# Altium schematic symbol library Capacitors-0603.SchLib: 32 symbols
Pins are listed as number, name and electrical type; pins without a type are passive.

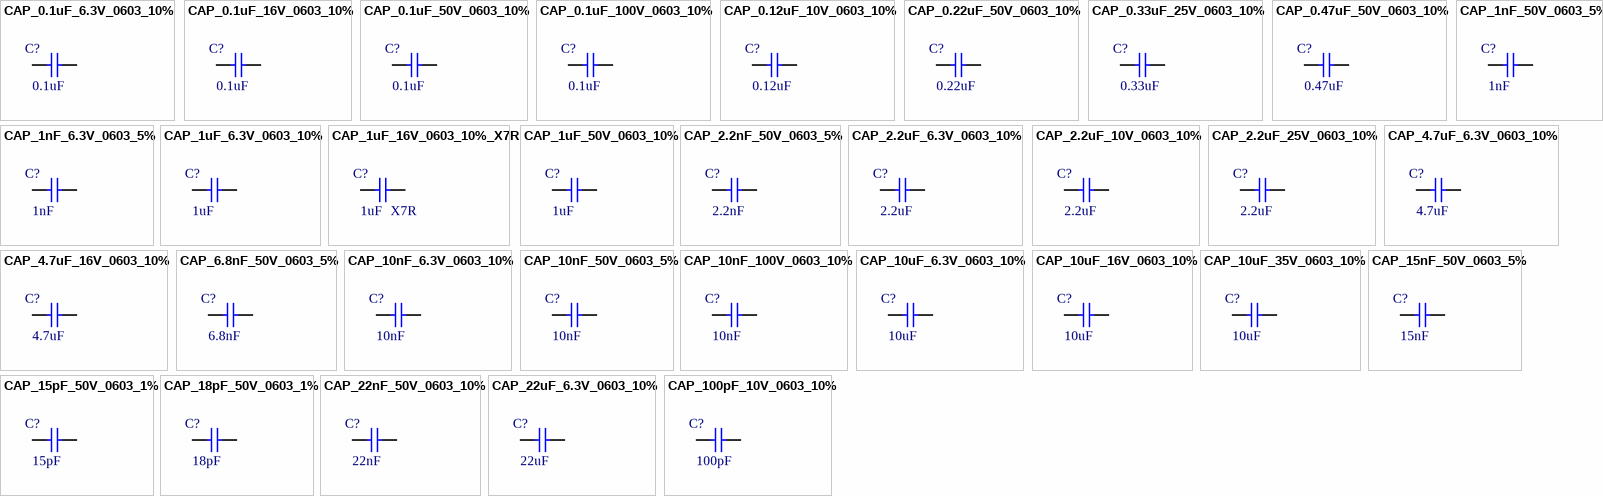
[diagram p0: symbols CAP_0.1uF_6.3V_0603_10% to CAP_100pF_10V_0603_10%]

## CAP_0.1uF_6.3V_0603_10%
designator C?, comment value 0.1uF  (hidden comment: 0.1uF 6.3V 0603)
0.1uF 6.3V 10% 0603 (1608 Metric); PartNumber: GRM188R70J104KA01D; Manufacturer: Murata; Mounting Technology: Surface Mount; PackageReference: 0603; PackageDescription: 0603 (1608 Metric); Voltage: 6.3V; Tolerance: 10%
footprint C0603[1608X92] (Chip Capacitor, Body 1.6x0.8mm)
pins: 1, 2

## CAP_0.1uF_16V_0603_10%
designator C?, comment value 0.1uF  (hidden comment: 0.1uF 16V 0603)
0.1uF 16V 10% 0603 (1608 Metric); PartNumber: GCM188R71C104KA37D; Manufacturer: Murata; TemperatureCoefficient: X7R; Mounting Technology: Surface Mount; PackageReference: 0603; PackageDescription: 0603 (1608 Metric); Voltage: 16V; Tolerance: 10%
footprint C0603[1608X92] (Chip Capacitor, Body 1.6x0.8mm)
pins: 1, 2

## CAP_0.1uF_50V_0603_10%
designator C?, comment value 0.1uF  (hidden comment: 0.1uF 50V 0603)
0.1uF 50V 10% 0603 (1608 Metric); PartNumber: GCM188R71H104KA57D; Manufacturer: Murata; TemperatureCoefficient: X7R; Mounting Technology: Surface Mount; PackageReference: 0603; PackageDescription: 0603 (1608 Metric); Voltage: 50V; Tolerance: 10%
footprint C0603[1608X92] (Chip Capacitor, Body 1.6x0.8mm)
pins: 1, 2

## CAP_0.1uF_100V_0603_10%
designator C?, comment value 0.1uF  (hidden comment: 0.1uF 100V 0603)
0.1uF 100V 10% 0603 (1608 Metric); PartNumber: GRM188R72A104KA35D; Manufacturer: Murata; TemperatureCoefficient: X7R; Mounting Technology: Surface Mount; PackageReference: 0603; PackageDescription: 0603 (1608 Metric); Voltage: 100V; Tolerance: 10%
footprint C0603[1608X92] (Chip Capacitor, Body 1.6x0.8mm)
pins: 1, 2

## CAP_0.12uF_10V_0603_10%
designator C?, comment value 0.12uF  (hidden comment: 0.12uF 10V 0603)
0.12uF 10V 10% 0603 (1608 Metric); PartNumber: GRM188R71A124KA01D; Manufacturer: Murata; TemperatureCoefficient: X7R; Mounting Technology: Surface Mount; PackageReference: 0603; PackageDescription: 0603 (1608 Metric); Voltage: 10V; Tolerance: 10%
footprint C0603[1608X92] (Chip Capacitor, Body 1.6x0.8mm)
pins: 1, 2

## CAP_0.22uF_50V_0603_10%
designator C?, comment value 0.22uF  (hidden comment: 0.22uF 50V 0603)
0.22uF 50V 10% 0603 (1608 Metric); PartNumber: GRM188R61H224KAC4D; Manufacturer: Murata; TemperatureCoefficient: X7R; Mounting Technology: Surface Mount; PackageReference: 0603; PackageDescription: 0603 (1608 Metric); Voltage: 50V; Tolerance: 10%
footprint C0603[1608X92] (Chip Capacitor, Body 1.6x0.8mm)
pins: 1, 2

## CAP_0.33uF_25V_0603_10%
designator C?, comment value 0.33uF  (hidden comment: 0.33uF 25V 0603)
0.33uF 25V 10% 0603 (1608 Metric); PartNumber: GCJ188R91E334KA01D; Manufacturer: Murata; TemperatureCoefficient: X8R; Mounting Technology: Surface Mount; PackageReference: 0603; PackageDescription: 0603 (1608 Metric); Voltage: 25V; Tolerance: 10%
footprint C0603[1608X92] (Chip Capacitor, Body 1.6x0.8mm)
pins: 1, 2

## CAP_0.47uF_50V_0603_10%
designator C?, comment value 0.47uF  (hidden comment: 0.47uF 50V 0603)
0.47uF 50V 10% 0603 (1608 Metric); PartNumber: GRM188R61H474KA12D; Manufacturer: Murata; TemperatureCoefficient: X5R; Mounting Technology: Surface Mount; PackageReference: 0603; PackageDescription: 0603 (1608 Metric); Voltage: 50V; Tolerance: 10%
footprint C0603[1608X92] (Chip Capacitor, Body 1.6x0.8mm)
pins: 1, 2

## CAP_1nF_6.3V_0603_5%
designator C?, comment value 1nF  (hidden comment: 1nF 6.3V 0603)
1nF 6.3V 5% 0603 (1608 Metric); PartNumber: 06036C102KAT4A; Manufacturer: AVX Corporation; Tolerance: 10%; TemperatureCoefficient: X7R; Mounting Technology: Surface Mount; PackageReference: 0603; PackageDescription: 0603 (1608 Metric); Voltage: 6.3V
footprint C0603[1608X92] (Chip Capacitor, Body 1.6x0.8mm)
pins: 1, 2

## CAP_1nF_50V_0603_5%
designator C?, comment value 1nF  (hidden comment: 1nF 50V 0603)
1nF 50V 5% 0603 (1608 Metric); PartNumber: GRM1885C1H102JA01D; Manufacturer: Murata; TemperatureCoefficient: C0G; Mounting Technology: Surface Mount; PackageReference: 0603; PackageDescription: 0603 (1608 Metric); Voltage: 50V; Tolerance: 5%
footprint C0603[1608X92] (Chip Capacitor, Body 1.6x0.8mm)
pins: 1, 2

## CAP_1uF_6.3V_0603_10%
designator C?, comment value 1uF  (hidden comment: 1uF 6.3V 0603)
1uF 6.3V 10% 0603 (1608 Metric); PartNumber: GRM188R60J105KA01D; Manufacturer: Murata; TemperatureCoefficient: X5R; Mounting Technology: Surface Mount; PackageReference: 0603; PackageDescription: 0603 (1608 Metric); Voltage: 6.3V; Tolerance: 10%
footprint C0603[1608X92] (Chip Capacitor, Body 1.6x0.8mm)
pins: 1, 2

## CAP_1uF_16V_0603_10%_X7R
designator C?, comment value 1uF  TemperatureCoefficient: X7R  (hidden comment: 1uF 16V 0603 X7R)
1uF 16V 10% 0603 X7R (1608 Metric); PartNumber: GCJ188R71E105KA01D; Manufacturer: Murata; Mounting Technology: Surface Mount; PackageReference: 0603; PackageDescription: 0603 (1608 Metric); Voltage: 16V; Tolerance: 10%
footprint C0603[1608X92] (Chip Capacitor, Body 1.6x0.8mm)
pins: 1, 2

## CAP_1uF_50V_0603_10%
designator C?, comment value 1uF  (hidden comment: 1uF 50V 0603)
1uF 50V 10% 0603 (1608 Metric); PartNumber: GRM188R61H105KAALD; Manufacturer: Murata; TemperatureCoefficient: X5R; Mounting Technology: Surface Mount; PackageReference: 0603; PackageDescription: 0603 (1608 Metric); Voltage: 50V; Tolerance: 10%
footprint C0603[1608X92] (Chip Capacitor, Body 1.6x0.8mm)
pins: 1, 2

## CAP_2.2nF_50V_0603_5%
designator C?, comment value 2.2nF  (hidden comment: 2.2nF 50V 0603)
2.2nF 50V 5% 0603 (1608 Metric); PartNumber: GRM1885C1H222JA01D; Manufacturer: Murata; TemperatureCoefficient: C0G; Mounting Technology: Surface Mount; PackageReference: 0603; PackageDescription: 0603 (1608 Metric); Voltage: 50V; Tolerance: 5%
footprint C0603[1608X92] (Chip Capacitor, Body 1.6x0.8mm)
pins: 1, 2

## CAP_2.2uF_6.3V_0603_10%
designator C?, comment value 2.2uF  (hidden comment: 2.2uF 6.3V 0603)
2.2uF 6.3V 10% 0603 (1608 Metric); PartNumber: GRM185R60J225KE26D; Manufacturer: Murata; TemperatureCoefficient: X5R; Mounting Technology: Surface Mount; PackageReference: 0603; PackageDescription: 0603 (1608 Metric); Voltage: 6.3V; Tolerance: 10%
footprint C0603[1608X92] (Chip Capacitor, Body 1.6x0.8mm)
pins: 1, 2

## CAP_2.2uF_10V_0603_10%
designator C?, comment value 2.2uF  (hidden comment: 2.2uF 10V 0603)
2.2uF 10V 10% 0603 (1608 Metric); PartNumber: GRT188R61A225KE13D; Manufacturer: Murata; TemperatureCoefficient: X5R; Mounting Technology: Surface Mount; PackageReference: 0603; PackageDescription: 0603 (1608 Metric); Voltage: 10V; Tolerance: 10%
footprint C0603[1608X92] (Chip Capacitor, Body 1.6x0.8mm)
pins: 1, 2

## CAP_2.2uF_25V_0603_10%
designator C?, comment value 2.2uF  (hidden comment: 2.2uF 25V 0603)
2.2uF 25V 10% 0603 (1608 Metric); PartNumber: GRM188R61E225KA12D; Manufacturer: Murata; TemperatureCoefficient: X5R; Mounting Technology: Surface Mount; PackageReference: 0603; PackageDescription: 0603 (1608 Metric); Voltage: 25V; Tolerance: 10%
footprint C0603[1608X92] (Chip Capacitor, Body 1.6x0.8mm)
pins: 1, 2

## CAP_4.7uF_6.3V_0603_10%
designator C?, comment value 4.7uF  (hidden comment: 4.7uF 6.3V 0603)
4.7uF 6.3V 10% 0603 (1608 Metric); PartNumber: GRM188R60J475KE19J; Manufacturer: Murata; TemperatureCoefficient: X5R; Mounting Technology: Surface Mount; PackageReference: 0603; PackageDescription: 0603 (1608 Metric); Voltage: 6.3V; Tolerance: 10%
footprint C0603[1608X92] (Chip Capacitor, Body 1.6x0.8mm)
pins: 1, 2

## CAP_4.7uF_16V_0603_10%
designator C?, comment value 4.7uF  (hidden comment: 4.7uF 16V 0603)
4.7uF 16V 10% 0603 (1608 Metric); PartNumber: GRM188R61A475KE15D; Manufacturer: Murata; TemperatureCoefficient: X5R; Mounting Technology: Surface Mount; PackageReference: 0603; PackageDescription: 0603 (1608 Metric); Voltage: 16V; Tolerance: 10%
footprint C0603[1608X92] (Chip Capacitor, Body 1.6x0.8mm)
pins: 1, 2

## CAP_6.8nF_50V_0603_5%
designator C?, comment value 6.8nF  (hidden comment: 6.8nF 50V 0603)
6.8nF 50V 5% 0603 (1608 Metric); PartNumber: GRM1885C1H682JA01D; Manufacturer: Murata; TemperatureCoefficient: C0G; Mounting Technology: Surface Mount; PackageReference: 0603; PackageDescription: 0603 (1608 Metric); Voltage: 50V; Tolerance: 5%
footprint C0603[1608X92] (Chip Capacitor, Body 1.6x0.8mm)
pins: 1, 2

## CAP_10nF_6.3V_0603_10%
designator C?, comment value 10nF  (hidden comment: 10nF 6.3V 0603)
10nF 6.3V 10% 0603 (1608 Metric); PartNumber: GRM188R70J103KA01D; Manufacturer: Murata; TemperatureCoefficient: X7R; Mounting Technology: Surface Mount; PackageReference: 0603; PackageDescription: 0603 (1608 Metric); Voltage: 6.3V; Tolerance: 10%
footprint C0603[1608X92] (Chip Capacitor, Body 1.6x0.8mm)
pins: 1, 2

## CAP_10nF_50V_0603_5%
designator C?, comment value 10nF  (hidden comment: 10nF 50V 0603)
10nF 50V 5% 0603 (1608 Metric); PartNumber: GRM188R71H103JA01D; Manufacturer: Murata; TemperatureCoefficient: X7R; Mounting Technology: Surface Mount; PackageReference: 0603; PackageDescription: 0603 (1608 Metric); Voltage: 50V; Tolerance: 5%
footprint C0603[1608X92] (Chip Capacitor, Body 1.6x0.8mm)
pins: 1, 2

## CAP_10nF_100V_0603_10%
designator C?, comment value 10nF  (hidden comment: 10nF 100V 0603)
10nF 100V 10% 0603 (1608 Metric); PartNumber: GRM188R72A103KA01D; Manufacturer: Murata; TemperatureCoefficient: X7R; Mounting Technology: Surface Mount; PackageReference: 0603; PackageDescription: 0603 (1608 Metric); Voltage: 100V; Tolerance: 10%
footprint C0603[1608X92] (Chip Capacitor, Body 1.6x0.8mm)
pins: 1, 2

## CAP_10uF_6.3V_0603_10%
designator C?, comment value 10uF  (hidden comment: 10uF 6.3V 0603)
10uF 6.3V 10% 0603 (1608 Metric); PartNumber: GRM188R60J106KE47D; Manufacturer: Murata; TemperatureCoefficient: X5R; Mounting Technology: Surface Mount; PackageReference: 0603; PackageDescription: 0603 (1608 Metric); Voltage: 6.3V; Tolerance: 10%
footprint C0603[1608X92] (Chip Capacitor, Body 1.6x0.8mm)
pins: 1, 2

## CAP_10uF_16V_0603_10%
designator C?, comment value 10uF  (hidden comment: 10uF 16V 0603)
10uF 16V 10% 0603 (1608 Metric); PartNumber: GRM188R61C106KAALD; Manufacturer: Murata; TemperatureCoefficient: X5R; Mounting Technology: Surface Mount; PackageReference: 0603; PackageDescription: 0603 (1608 Metric); Voltage: 16V; Tolerance: 10%
footprint C0603[1608X92] (Chip Capacitor, Body 1.6x0.8mm)
pins: 1, 2

## CAP_10uF_35V_0603_10%
designator C?, comment value 10uF  (hidden comment: 10uF 35V 0603)
10uF 35V 10% 0603 (1608 Metric); PartNumber: GRM188R6YA106MA73D; Manufacturer: Murata; TemperatureCoefficient: X5R; Mounting Technology: Surface Mount; PackageReference: 0603; PackageDescription: 0603 (1608 Metric); Voltage: 35V; Tolerance: 10%
footprint C0603[1608X92] (Chip Capacitor, Body 1.6x0.8mm)
pins: 1, 2

## CAP_15nF_50V_0603_5%
designator C?, comment value 15nF  (hidden comment: 15nF 50V 0603)
15nF 50V 5% 0603 (1608 Metric); PartNumber: GRM188R71H153JA01D; Manufacturer: Murata; TemperatureCoefficient: X7R; Mounting Technology: Surface Mount; PackageReference: 0603; PackageDescription: 0603 (1608 Metric); Voltage: 50V; Tolerance: 5%
footprint C0603[1608X92] (Chip Capacitor, Body 1.6x0.8mm)
pins: 1, 2

## CAP_15pF_50V_0603_1%
designator C?, comment value 15pF  (hidden comment: 15pF 50V 0603)
15pF 50V 1% 0603 (1608 Metric); PartNumber: 06035A150FAT2A; Manufacturer: AVX Corporation; TemperatureCoefficient: C0G; Mounting Technology: Surface Mount; PackageReference: 0603; PackageDescription: 0603 (1608 Metric); Voltage: 50V; Tolerance: 1%
footprint C0603[1608X92] (Chip Capacitor, Body 1.6x0.8mm)
pins: 1, 2

## CAP_18pF_50V_0603_1%
designator C?, comment value 18pF  (hidden comment: 18pF 50V 0603)
18pF 50V 1% 0603 (1608 Metric); PartNumber: 06035A180FAT2A; Manufacturer: AVX Corporation; TemperatureCoefficient: C0G; Mounting Technology: Surface Mount; PackageReference: 0603; PackageDescription: 0603 (1608 Metric); Voltage: 50V; Tolerance: 1%
footprint C0603[1608X92] (Chip Capacitor, Body 1.6x0.8mm)
pins: 1, 2

## CAP_22nF_50V_0603_10%
designator C?, comment value 22nF  (hidden comment: 22nF 50V 0603)
22nF 50V 10% 0603 (1608 Metric); PartNumber: GRM188R71H223KA01D; Manufacturer: Murata; TemperatureCoefficient: X7R; Mounting Technology: Surface Mount; PackageReference: 0603; PackageDescription: 0603 (1608 Metric); Voltage: 50V; Tolerance: 10%
footprint C0603[1608X92] (Chip Capacitor, Body 1.6x0.8mm)
pins: 1, 2

## CAP_22uF_6.3V_0603_10%
designator C?, comment value 22uF  (hidden comment: 22uF 6.3V 0603)
22uF 6.3V 10% 0603 (1608 Metric); PartNumber: GRT188R60J226ME13D; Manufacturer: Murata; Mounting Technology: Surface Mount; PackageReference: 0603; PackageDescription: 0603 (1608 Metric); Voltage: 6.3V; Tolerance: 10%; TemperatureCoefficient: *
footprint C0603[1608X92] (Chip Capacitor, Body 1.6x0.8mm)
pins: 1, 2

## CAP_100pF_10V_0603_10%
designator C?, comment value 100pF  (hidden comment: 100pF 10V 0603)
100pF 10V 10% 0603 (1608 Metric); PartNumber: 885012206003; Manufacturer: Wurth; TemperatureCoefficient: X7R; Mounting Technology: Surface Mount; PackageReference: 0603; PackageDescription: 0603 (1608 Metric); Voltage: 10V; Tolerance: 10%
footprint C0603[1608X92] (Chip Capacitor, Body 1.6x0.8mm)
pins: 1, 2